# Altium footprint library Arduino_Dou.PcbLib: 1 footprints
Each footprint in its own frame and in the unit in brackets; x right, y up, seen from the top. Pads: shape width x height; smd on the part's side, far side on the other; paste and mask are expansions set on the pad; w line width, h text height; cw(c..) or ccw(c..) is an arc to the next point about the centre after c.
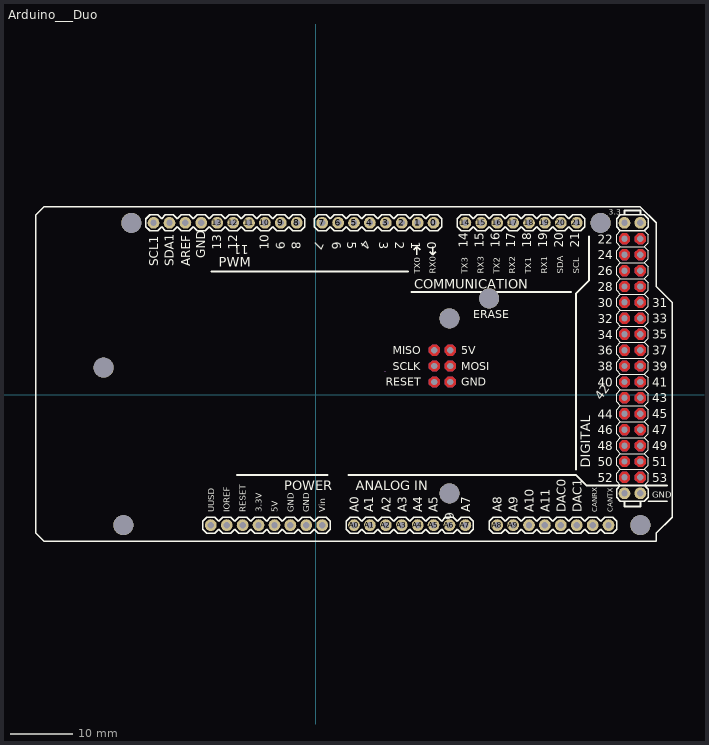
[diagram p0: the footprint, top view; thin cyan lines are the x and y axes]

## Arduino___Duo [mil]
pads (100):
  round 74 hole 40: 0(740,1080) 1(640,1080) 2(540,1080) 3(440,1080) 3.3V(-360,-820) 4(340,1080) 5(240,1080) 5V@0(-260,-820) 5V@1(1940,1080) 5V@2(2040,1080) 6(140,1080) 7(40,1080) 8(-120,1080) 9(-220,1080) 10(-320,1080) 11(-420,1080) 12(-520,1080) 13(-620,1080) 14(940,1080) 15(1040,1080) 16(1140,1080) 17(1240,1080) 18(1340,1080) 19(1440,1080) 20(1540,1080) 21(1640,1080) A0(240,-820) A1(340,-820) A2(440,-820) A3(540,-820) A4(640,-820) A5(740,-820) A6(840,-820) A7(940,-820) A8(1140,-820) A9(1240,-820) A10(1340,-820) A11(1440,-820) AREF(-820,1080) CANRX(1740,-820) CANTX(1840,-820) DAC0(1540,-820) DAC1(1640,-820) GND@0(-160,-820) GND@1(-60,-820) GND@2(1940,-620) GND@3(2040,-620) GND@4(-720,1080) IOREF(-560,-820) RESET(-460,-820) SCL1(-1020,1080) SDA1(-920,1080) UUSD(-660,-820) VIN(40,-820)
  round 0 hole 40: 5V@ICSP(845,280) 22(1940,980) 23(2040,980) 24(1940,880) 25(2040,880) 26(1940,780) 27(2040,780) 28(1940,680) 29(2040,680) 30(1940,580) 31(2040,580) 32(1940,480) 33(2040,480) 34(1940,380) 35(2040,380) 36(1940,280) 37(2040,280) 38(1940,180) 39(2040,180) 40(1940,80) 41(2040,80) 42(1940,-20) 43(2040,-20) 44(1940,-120) 45(2040,-120) 46(1940,-220) 47(2040,-220) 48(1940,-320) 49(2040,-320) 50(1940,-420) 51(2040,-420) 52(1940,-520) 53(2040,-520) GND@ICSP(845,80) MISO(745,280) MOSI(845,180) RESET@ICSP(745,80) SCLK(745,180)
  round 125.98 hole 125.98 unplated: ""(-1334,170) ""(-1210,-820) ""(-1160,1080) ""(840,-620) ""(840,480) ""(1090,605) ""(1790,1080) ""(2040,-820)
Top Layer:
  region: 730.84,114.18 710.81,94.16 710.81,65.84 730.84,45.81 759.16,45.81 779.18,65.84 779.18,94.16 759.16,114.18
  region: 830.84,114.18 810.81,94.16 810.81,65.84 830.84,45.81 859.16,45.81 879.18,65.84 879.18,94.16 859.16,114.18
  region: 830.84,214.18 810.81,194.16 810.81,165.84 830.84,145.81 859.16,145.81 879.18,165.84 879.18,194.16 859.16,214.18
  region: 730.84,214.18 710.81,194.16 710.81,165.84 730.84,145.81 759.16,145.81 779.18,165.84 779.18,194.16 759.16,214.18
  region: 830.84,314.18 810.81,294.16 810.81,265.84 830.84,245.81 859.16,245.81 879.18,265.84 879.18,294.16 859.16,314.18
  region: 730.84,314.18 710.81,294.16 710.81,265.84 730.84,245.81 759.16,245.81 779.18,265.84 779.18,294.16 759.16,314.18
  region: 1925.84,214.18 1905.81,194.16 1905.81,165.84 1925.84,145.81 1954.15,145.81 1974.18,165.84 1974.18,194.16 1954.15,214.18
  region: 2025.84,214.18 2005.81,194.16 2005.81,165.84 2025.84,145.81 2054.15,145.81 2074.18,165.84 2074.18,194.16 2054.15,214.18
  region: 1925.84,114.18 1905.81,94.16 1905.81,65.84 1925.84,45.81 1954.15,45.81 1974.18,65.84 1974.18,94.16 1954.15,114.18
  region: 2025.84,114.18 2005.81,94.16 2005.81,65.84 2025.84,45.81 2054.15,45.81 2074.18,65.84 2074.18,94.16 2054.15,114.18
  region: 1925.84,14.18 1905.81,-5.84 1905.81,-34.16 1925.84,-54.19 1954.15,-54.19 1974.18,-34.16 1974.18,-5.84 1954.15,14.18
  region: 2025.84,14.18 2005.81,-5.84 2005.81,-34.16 2025.84,-54.19 2054.15,-54.19 2074.18,-34.16 2074.18,-5.84 2054.15,14.18
  region: 1925.84,-85.82 1905.81,-105.84 1905.81,-134.16 1925.84,-154.18 1954.15,-154.18 1974.18,-134.16 1974.18,-105.84 1954.15,-85.82
  region: 2025.84,-85.82 2005.81,-105.84 2005.81,-134.16 2025.84,-154.18 2054.15,-154.18 2074.18,-134.16 2074.18,-105.84 2054.15,-85.82
  region: 1925.84,-185.82 1905.81,-205.84 1905.81,-234.16 1925.84,-254.18 1954.15,-254.18 1974.18,-234.16 1974.18,-205.84 1954.15,-185.82
  region: 2025.84,-185.82 2005.81,-205.84 2005.81,-234.16 2025.84,-254.18 2054.15,-254.18 2074.18,-234.16 2074.18,-205.84 2054.15,-185.82
  region: 1925.84,-285.82 1905.81,-305.84 1905.81,-334.16 1925.84,-354.18 1954.15,-354.18 1974.18,-334.16 1974.18,-305.84 1954.15,-285.82
  region: 2025.84,-285.82 2005.81,-305.84 2005.81,-334.16 2025.84,-354.18 2054.15,-354.18 2074.18,-334.16 2074.18,-305.84 2054.15,-285.82
  region: 1925.84,-385.82 1905.81,-405.84 1905.81,-434.16 1925.84,-454.18 1954.15,-454.18 1974.18,-434.16 1974.18,-405.84 1954.15,-385.82
  region: 2025.84,-385.82 2005.81,-405.84 2005.81,-434.16 2025.84,-454.18 2054.15,-454.18 2074.18,-434.16 2074.18,-405.84 2054.15,-385.82
  region: 1925.84,-485.82 1905.81,-505.84 1905.81,-534.16 1925.84,-554.18 1954.15,-554.18 1974.18,-534.16 1974.18,-505.84 1954.15,-485.82
  region: 2025.84,-485.82 2005.81,-505.84 2005.81,-534.16 2025.84,-554.18 2054.15,-554.18 2074.18,-534.16 2074.18,-505.84 2054.15,-485.82
  region: 1925.84,1014.18 1905.81,994.16 1905.81,965.84 1925.84,945.81 1954.15,945.81 1974.18,965.84 1974.18,994.16 1954.15,1014.18
  region: 2025.84,1014.18 2005.81,994.16 2005.81,965.84 2025.84,945.81 2054.15,945.81 2074.18,965.84 2074.18,994.16 2054.15,1014.18
  region: 1925.84,914.18 1905.81,894.16 1905.81,865.84 1925.84,845.81 1954.15,845.81 1974.18,865.84 1974.18,894.16 1954.15,914.18
  region: 2025.84,914.18 2005.81,894.16 2005.81,865.84 2025.84,845.81 2054.15,845.81 2074.18,865.84 2074.18,894.16 2054.15,914.18
  region: 1925.84,814.18 1905.81,794.16 1905.81,765.84 1925.84,745.81 1954.15,745.81 1974.18,765.84 1974.18,794.16 1954.15,814.18
  region: 2025.84,814.18 2005.81,794.16 2005.81,765.84 2025.84,745.81 2054.15,745.81 2074.18,765.84 2074.18,794.16 2054.15,814.18
  region: 1925.84,714.18 1905.81,694.16 1905.81,665.84 1925.84,645.81 1954.15,645.81 1974.18,665.84 1974.18,694.16 1954.15,714.18
  region: 2025.84,714.18 2005.81,694.16 2005.81,665.84 2025.84,645.81 2054.15,645.81 2074.18,665.84 2074.18,694.16 2054.15,714.18
  region: 1925.84,614.18 1905.81,594.16 1905.81,565.84 1925.84,545.81 1954.15,545.81 1974.18,565.84 1974.18,594.16 1954.15,614.18
  region: 2025.84,614.18 2005.81,594.16 2005.81,565.84 2025.84,545.81 2054.15,545.81 2074.18,565.84 2074.18,594.16 2054.15,614.18
  region: 1925.84,514.18 1905.81,494.16 1905.81,465.84 1925.84,445.81 1954.15,445.81 1974.18,465.84 1974.18,494.16 1954.15,514.18
  region: 2025.84,514.18 2005.81,494.16 2005.81,465.84 2025.84,445.81 2054.15,445.81 2074.18,465.84 2074.18,494.16 2054.15,514.18
  region: 1925.84,414.18 1905.81,394.16 1905.81,365.84 1925.84,345.81 1954.15,345.81 1974.18,365.84 1974.18,394.16 1954.15,414.18
  region: 2025.84,414.18 2005.81,394.16 2005.81,365.84 2025.84,345.81 2054.15,345.81 2074.18,365.84 2074.18,394.16 2054.15,414.18
  region: 1925.84,314.18 1905.81,294.16 1905.81,265.84 1925.84,245.81 1954.15,245.81 1974.18,265.84 1974.18,294.16 1954.15,314.18
  region: 2025.84,314.18 2005.81,294.16 2005.81,265.84 2025.84,245.81 2054.15,245.81 2074.18,265.84 2074.18,294.16 2054.15,314.18
Bottom Layer:
  region: 730.84,114.18 710.81,94.16 710.81,65.84 730.84,45.81 759.16,45.81 779.18,65.84 779.18,94.16 759.16,114.18
  region: 830.84,114.18 810.81,94.16 810.81,65.84 830.84,45.81 859.16,45.81 879.18,65.84 879.18,94.16 859.16,114.18
  region: 830.84,214.18 810.81,194.16 810.81,165.84 830.84,145.81 859.16,145.81 879.18,165.84 879.18,194.16 859.16,214.18
  region: 730.84,214.18 710.81,194.16 710.81,165.84 730.84,145.81 759.16,145.81 779.18,165.84 779.18,194.16 759.16,214.18
  region: 830.84,314.18 810.81,294.16 810.81,265.84 830.84,245.81 859.16,245.81 879.18,265.84 879.18,294.16 859.16,314.18
  region: 730.84,314.18 710.81,294.16 710.81,265.84 730.84,245.81 759.16,245.81 779.18,265.84 779.18,294.16 759.16,314.18
  region: 1925.84,214.18 1905.81,194.16 1905.81,165.84 1925.84,145.81 1954.15,145.81 1974.18,165.84 1974.18,194.16 1954.15,214.18
  region: 2025.84,214.18 2005.81,194.16 2005.81,165.84 2025.84,145.81 2054.15,145.81 2074.18,165.84 2074.18,194.16 2054.15,214.18
  region: 1925.84,114.18 1905.81,94.16 1905.81,65.84 1925.84,45.81 1954.15,45.81 1974.18,65.84 1974.18,94.16 1954.15,114.18
  region: 2025.84,114.18 2005.81,94.16 2005.81,65.84 2025.84,45.81 2054.15,45.81 2074.18,65.84 2074.18,94.16 2054.15,114.18
  region: 1925.84,14.18 1905.81,-5.84 1905.81,-34.16 1925.84,-54.19 1954.15,-54.19 1974.18,-34.16 1974.18,-5.84 1954.15,14.18
  region: 2025.84,14.18 2005.81,-5.84 2005.81,-34.16 2025.84,-54.19 2054.15,-54.19 2074.18,-34.16 2074.18,-5.84 2054.15,14.18
  region: 1925.84,-85.82 1905.81,-105.84 1905.81,-134.16 1925.84,-154.18 1954.15,-154.18 1974.18,-134.16 1974.18,-105.84 1954.15,-85.82
  region: 2025.84,-85.82 2005.81,-105.84 2005.81,-134.16 2025.84,-154.18 2054.15,-154.18 2074.18,-134.16 2074.18,-105.84 2054.15,-85.82
  region: 1925.84,-185.82 1905.81,-205.84 1905.81,-234.16 1925.84,-254.18 1954.15,-254.18 1974.18,-234.16 1974.18,-205.84 1954.15,-185.82
  region: 2025.84,-185.82 2005.81,-205.84 2005.81,-234.16 2025.84,-254.18 2054.15,-254.18 2074.18,-234.16 2074.18,-205.84 2054.15,-185.82
  region: 1925.84,-285.82 1905.81,-305.84 1905.81,-334.16 1925.84,-354.18 1954.15,-354.18 1974.18,-334.16 1974.18,-305.84 1954.15,-285.82
  region: 2025.84,-285.82 2005.81,-305.84 2005.81,-334.16 2025.84,-354.18 2054.15,-354.18 2074.18,-334.16 2074.18,-305.84 2054.15,-285.82
  region: 1925.84,-385.82 1905.81,-405.84 1905.81,-434.16 1925.84,-454.18 1954.15,-454.18 1974.18,-434.16 1974.18,-405.84 1954.15,-385.82
  region: 2025.84,-385.82 2005.81,-405.84 2005.81,-434.16 2025.84,-454.18 2054.15,-454.18 2074.18,-434.16 2074.18,-405.84 2054.15,-385.82
  region: 1925.84,-485.82 1905.81,-505.84 1905.81,-534.16 1925.84,-554.18 1954.15,-554.18 1974.18,-534.16 1974.18,-505.84 1954.15,-485.82
  region: 2025.84,-485.82 2005.81,-505.84 2005.81,-534.16 2025.84,-554.18 2054.15,-554.18 2074.18,-534.16 2074.18,-505.84 2054.15,-485.82
  region: 1925.84,1014.18 1905.81,994.16 1905.81,965.84 1925.84,945.81 1954.15,945.81 1974.18,965.84 1974.18,994.16 1954.15,1014.18
  region: 2025.84,1014.18 2005.81,994.16 2005.81,965.84 2025.84,945.81 2054.15,945.81 2074.18,965.84 2074.18,994.16 2054.15,1014.18
  region: 1925.84,914.18 1905.81,894.16 1905.81,865.84 1925.84,845.81 1954.15,845.81 1974.18,865.84 1974.18,894.16 1954.15,914.18
  region: 2025.84,914.18 2005.81,894.16 2005.81,865.84 2025.84,845.81 2054.15,845.81 2074.18,865.84 2074.18,894.16 2054.15,914.18
  region: 1925.84,814.18 1905.81,794.16 1905.81,765.84 1925.84,745.81 1954.15,745.81 1974.18,765.84 1974.18,794.16 1954.15,814.18
  region: 2025.84,814.18 2005.81,794.16 2005.81,765.84 2025.84,745.81 2054.15,745.81 2074.18,765.84 2074.18,794.16 2054.15,814.18
  region: 1925.84,714.18 1905.81,694.16 1905.81,665.84 1925.84,645.81 1954.15,645.81 1974.18,665.84 1974.18,694.16 1954.15,714.18
  region: 2025.84,714.18 2005.81,694.16 2005.81,665.84 2025.84,645.81 2054.15,645.81 2074.18,665.84 2074.18,694.16 2054.15,714.18
  region: 1925.84,614.18 1905.81,594.16 1905.81,565.84 1925.84,545.81 1954.15,545.81 1974.18,565.84 1974.18,594.16 1954.15,614.18
  region: 2025.84,614.18 2005.81,594.16 2005.81,565.84 2025.84,545.81 2054.15,545.81 2074.18,565.84 2074.18,594.16 2054.15,614.18
  region: 1925.84,514.18 1905.81,494.16 1905.81,465.84 1925.84,445.81 1954.15,445.81 1974.18,465.84 1974.18,494.16 1954.15,514.18
  region: 2025.84,514.18 2005.81,494.16 2005.81,465.84 2025.84,445.81 2054.15,445.81 2074.18,465.84 2074.18,494.16 2054.15,514.18
  region: 1925.84,414.18 1905.81,394.16 1905.81,365.84 1925.84,345.81 1954.15,345.81 1974.18,365.84 1974.18,394.16 1954.15,414.18
  region: 2025.84,414.18 2005.81,394.16 2005.81,365.84 2025.84,345.81 2054.15,345.81 2074.18,365.84 2074.18,394.16 2054.15,414.18
  region: 1925.84,314.18 1905.81,294.16 1905.81,265.84 1925.84,245.81 1954.15,245.81 1974.18,265.84 1974.18,294.16 1954.15,314.18
  region: 2025.84,314.18 2005.81,294.16 2005.81,265.84 2025.84,245.81 2054.15,245.81 2074.18,265.84 2074.18,294.16 2054.15,314.18
Top Overlay:
  drawing of 477 lines, arcs and shapes, not listed
  text "MISO" at 485,255 h50
  text "SCLK" at 485,155 h50
  text "RESET" at 440,55 h50
  text "GND" at 915,55 h50
  text "MOSI" at 915,155 h50
  text "5V" at 915,255 h50
  text "ERASE" at 990,480 h50
  text "UUSD" at -640,-739 h40
  text "IOREF" at -540,-739 h40
  text "SCL1" at -989,808.4 h56
  text "SDA1" at -894,808.4 h56
  text "3.3" at 1840,1130 h35
  text "AREF" at -789,808.4 h56
  text "GND" at -694,858.8 h56
  text "Vin" at 60,-739 h40
  text "GND" at -40,-739 h40
  text "GND" at -140,-739 h40
  text "5V" at -240,-739 h40
  text "3.3V" at -340,-739 h40
  text "RESET" at -440,-739 h40
  text "POWER" at -200,-600 h60
  text "SCL" at 1655,760 h40
  text "SDA" at 1555,760 h40
  text "RX1" at 1455,760 h40
  text "TX1" at 1355,760 h40
  text "RX2" at 1255,760 h40
  text "TX2" at 1155,760 h40
  text "RX3" at 1055,760 h40
  text "TX3" at 955,760 h40
  text "PWM" at -610,805 h60
  text "RX0" at 755,760 h40
  text "TX0" at 655,760 h40
  text "GND" at 2115,-649 h40
  text "DIGITAL" at 1725,-460 h60
  text "COMMUNICATION" at 620,665 h60
  text "ANALOG IN" at 250,-600 h60
  text "CANTX" at 1865,-739 h32
  text "CANRX" at 1770,-739 h32
  text "DAC1" at 1670,-739 h56
  text "DAC0" at 1570,-739 h56
  text "A11" at 1470,-739 h56
  text "A10" at 1370,-739 h56
  text "A9" at 1270,-739 h56
  text "A8" at 1170,-739 h56
  text "A7" at 970,-739 h56
  text "6" at 809.11,-741.44 h56
  text "A5" at 765,-739 h56
  text "A4" at 670,-739 h56
  text "A3" at 570,-739 h56
  text "A2" at 470,-739 h56
  text "A1" at 360,-739 h56
  text "A0" at 270,-739 h56
  text "53" at 2115,-549 h56
  text "51" at 2115,-449 h56
  text "49" at 2115,-349 h56
  text "47" at 2115,-249 h56
  text "45" at 2115,-149 h56
  text "43" at 2115,-49 h56
  text "41" at 2115,51 h56
  text "39" at 2115,151 h56
  text "37" at 2115,251 h56
  text "35" at 2115,351 h56
  text "33" at 2115,451 h56
  text "31" at 2115,551 h56
  text "52" at 1771,-550 h56
  text "48" at 1771,-350 h56
  text "50" at 1771,-450 h56
  text "46" at 1771,-250 h56
  text "44" at 1771,-150 h56
  text "42" at 1793.65,-38.46 h56
  text "40" at 1771,50 h56
  text "38" at 1771,150 h56
  text "36" at 1771,250 h56
  text "34" at 1771,350 h56
  text "32" at 1771,450 h56
  text "30" at 1771,550 h56
  text "28" at 1771,650 h56
  text "26" at 1771,750 h56
  text "24" at 1771,850 h56
  text "22" at 1771,950 h56
  text "21" at 1655,925 h56
  text "20" at 1555,925 h56
  text "19" at 1455,925 h56
  text "18" at 1355,925 h56
  text "17" at 1255,925 h56
  text "16" at 1155,925 h56
  text "15" at 1055,925 h56
  text "14" at 955,925 h56
  text "13" at -595,910 h56
  text "12" at -495,910 h56
  text "11" at -423,938 h56
  text "10" at -295,910 h56
  text "9" at -250.89,957.56 h56
  text "8" at -151,960 h56
  text "7" at 1.62,971.83 h56
  text "6" at 99.11,957.56 h56
  text "5" at 199,960 h56
  text "4" at 304.35,976.46 h56
  text "3" at 399,960 h56
  text "2" at 499,960 h56
  text "1" at 599,960 h56
  text "0" at 699,960 h56
Top Paste:
  drawing of 38 lines, arcs and shapes, not listed
Bottom Paste:
  drawing of 38 lines, arcs and shapes, not listed
Top Solder:
  drawing of 38 lines, arcs and shapes, not listed
Bottom Solder:
  drawing of 38 lines, arcs and shapes, not listed
Mechanical 15:
  lines w0.1: 435.5,145 437.5,147